# Altium footprint library MMT_Diodes_LEDs.PcbLib: 18 footprints (part 2 of 2)
Each footprint in its own frame and in the unit in brackets; x right, y up, seen from the top. Pads: shape width x height; smd on the part's side, far side on the other; paste and mask are expansions set on the pad; w line width, h text height; cw(c..) or ccw(c..) is an arc to the next point about the centre after c.
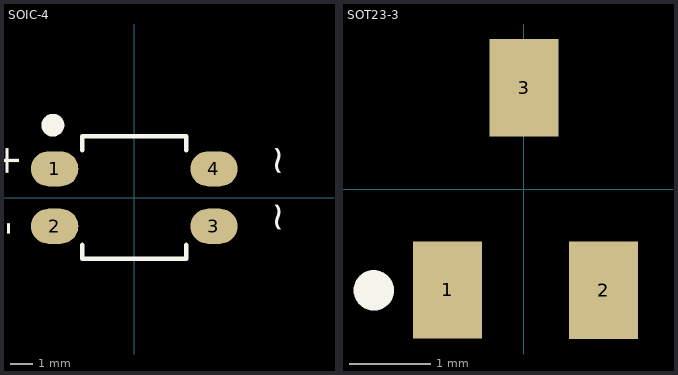
[diagram p1: the footprints below, top view; thin cyan lines are the x and y axes]

## SOIC-4 [mm]
pads (4):
  oval 2.1x1.55 smd: 1(-3.525,1.27) 2(-3.525,-1.27) 3(3.525,-1.27) 4(3.525,1.27)
Top Overlay:
  circle w0.5: c-3.6,3.2 r0.254
  lines w0.2: -2.3,-2.1 -2.3,-2.7 2.3,-2.7 2.3,-2.1 ; -2.3,2.1 -2.3,2.7 2.3,2.7 2.3,2.1
  text "+" at -5.1,0.9 h1.27
  text "-" at -5.1,-1.7 h1.27
  text "~" at 6.9,0.9 h1.27
  text "~" at 6.9,-1.6 h1.27
3D body "User Library-SOP254P665X290.step": height 2.9, standoff 0, extent -3.343,-2.475 3.343,2.475

## SOT23-3 [mm] "SOT 23 _ 1-2-3"
height 1.27
pads (3):
  rect 0.85x1.2 smd: 1(-0.94,-1.245) 2(0.985,-1.25) 3(0.005,1.25)
Top Overlay:
  circle w0.25: c-1.85,-1.25 r0.125
3D body "SW3DPS-SOT-23-DEFAULT.STEP": height 1.06, standoff -0.04, extent -1.475,-1.326 1.525,1.174